# Altium schematic symbol library 1760520000.SchLib: 1 symbol
Pins are listed as number, name and electrical type; pins without a type are passive.

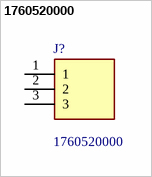
[diagram p0: symbol 1760520000]

## 1760520000
designator J?
Printed circuit board terminals, 5.08 mm, Number of poles: 3, 90, Solder pin length: 3.5 mm, tinned, black, Pressure clamp connection, Clamping range, max. [rated connection]: 2.5 mm, Box; Manufacturer_Name: Weidmuller; Geometry.Height: 10mm; Manufacturer_Part_Number: 1760520000; Mouser Part Number: 470-1760520000; Mouser Price/Stock: https://www.mouser.co.uk/ProductDetail/Weidmuller/1760520000?qs=BTG2th8YmhQ9%2FSREmUUfQg%3D%3D; Arrow Part Number: *; Arrow Price/Stock: *; Datasheet Link: http://catalog.weidmueller.com/createDatasheetForMobile.do?ordernumber=1760520000&scope1=1&scope2=1&localeId=en
footprint 1760520000
pins: 1, 2, 3